# Altium schematic symbol library C-C0603C150J5GACTU.Schlib: 1 symbol
Pins are listed as number, name and electrical type; pins without a type are passive.

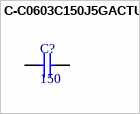
[diagram p0: symbol C-C0603C150J5GACTU]

## C-C0603C150J5GACTU
designator C?, comment 150
Multilayer Ceramic Capacitors MLCC - SMD/SMT 50volts 15pF C0G 5%
pins: 1, 2